# Altium footprint library ARJM11.PcbLib: 1 footprints
Each footprint in its own frame and in the unit in brackets; x right, y up, seen from the top. Pads: shape width x height; smd on the part's side, far side on the other; paste and mask are expansions set on the pad; w line width, h text height; cw(c..) or ccw(c..) is an arc to the next point about the centre after c.
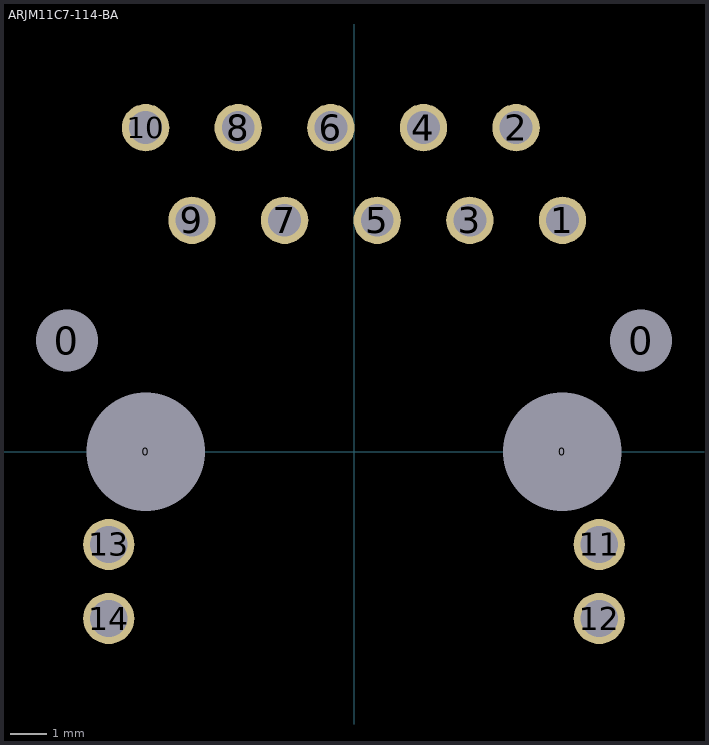
[diagram p0: the footprint, top view; thin cyan lines are the x and y axes]

## ARJM11C7-114-BA [mm] "CONN JACK 1PORT 100 BASE-T PCB"
pads (18):
  round 1.4 hole 1.7: 0(-7.875,3.05) 0(7.875,3.05)
  round 0.4 hole 3.25: 0(-5.715,0) 0(5.715,0)
  round 1.3 hole 0.9: 1(5.717,6.35) 2(4.445,8.89) 3(3.177,6.35) 4(1.905,8.89) 5(0.637,6.35) 6(-0.635,8.89) 7(-1.903,6.35) 8(-3.175,8.89) 9(-4.443,6.35) 10(-5.715,8.89)
  round 1.4 hole 1.02: 11(6.725,-2.54) 12(6.725,-4.57) 13(-6.725,-2.54) 14(-6.725,-4.57)
3D body "ARJM11C7-114-BA-EW2--3DModel-STEP-368357.STEP": height 15.3, standoff -3.6, extent -9.449,-10.795 9.449,10.855